# EAGLE library part TPS60111 (library lib_stankus)
TI TPS60111
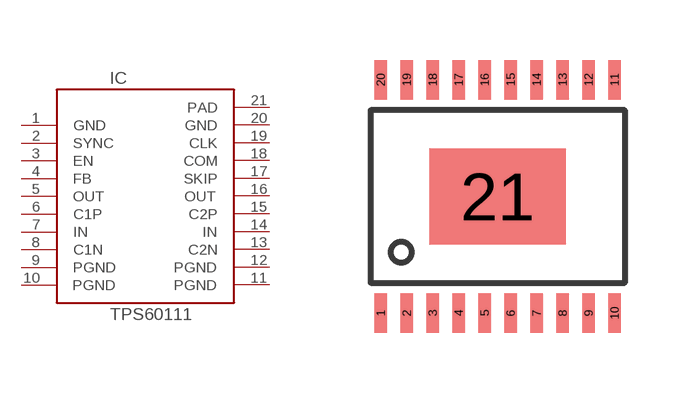
[diagram p69: symbol with the pads of TSSOP20_PAD; footprint TSSOP20_PAD]

Designator prefix IC

## TPS60111-TSSOP20  [TSSOP20_PAD]
1  GND  pas
2  SYNC  pas
3  EN  pas
4  FB  pas
5  OUT  pas
6  C1P  pas
7  IN  pas
8  C1N  pas
9  PGND  pas
10  PGND  pas
11  PGND  pas
12  PGND  pas
13  C2N  pas
14  IN  pas
15  C2P  pas
16  OUT  pas
17  SKIP  pas
18  COM  pas
19  CLK  pas
20  GND  pas
21  PAD  pas

## Footprint TSSOP20_PAD (pad centres in mm)
TSSOP20 WITH PAD
smd 0.305 x 0.991: 1 -2.925,-2.921; 2 -2.275,-2.921; 3 -1.625,-2.921; 4 -0.975,-2.921; 5 -0.325,-2.921; 6 0.325,-2.921; 7 0.975,-2.921; 8 1.625,-2.921; 9 2.275,-2.921; 10 2.925,-2.921; 11 2.925,2.921; 12 2.275,2.921; 13 1.625,2.921; 14 0.975,2.921; 15 0.325,2.921; 16 -0.325,2.921; 17 -0.975,2.921; 18 -1.625,2.921; 19 -2.275,2.921; 20 -2.925,2.921
smd 3.4 x 2.4: 21 0,0